# EAGLE library part MAX4278ESA (library maxim)
BUFFER
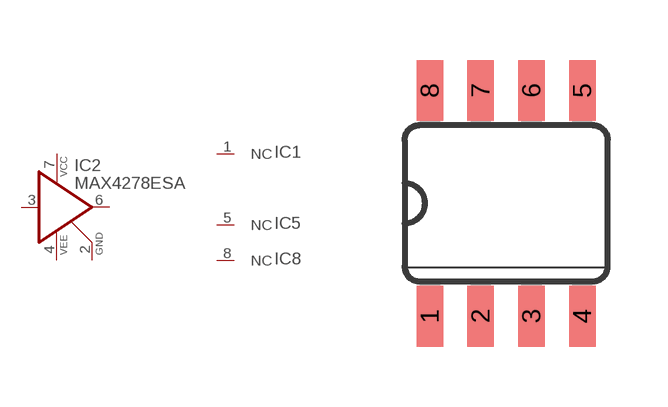
[diagram p166: symbol with the pads of SO08; footprint SO08]

Designator prefix IC; gates 1=NC 5=NC 8=NC 2=BUFF3P

## MAX4278ESA (OC_FARNELL: 1422322; OC_NEWARK: unknown)  [SO08]
1  1:NC  nc
2  2:GND  pwr
3  2:IN  in
4  2:VEE  pwr
5  5:NC  nc
6  2:OUT  out
7  2:VCC  pwr
8  8:NC  nc

## Footprint SO08 (pad centres in mm)
Small Outline Package SOIC 150 mil
smd 0.66 x 1.524: 1 -1.905,-2.819; 2 -0.635,-2.819; 3 0.635,-2.819; 4 1.905,-2.819; 5 1.905,2.819; 6 0.635,2.819; 7 -0.635,2.819; 8 -1.905,2.819